# Altium footprint library Pulse transformer.PcbLib: 1 footprints
Each footprint in its own frame and in the unit in brackets; x right, y up, seen from the top. Pads: shape width x height; smd on the part's side, far side on the other; paste and mask are expansions set on the pad; w line width, h text height; cw(c..) or ccw(c..) is an arc to the next point about the centre after c.
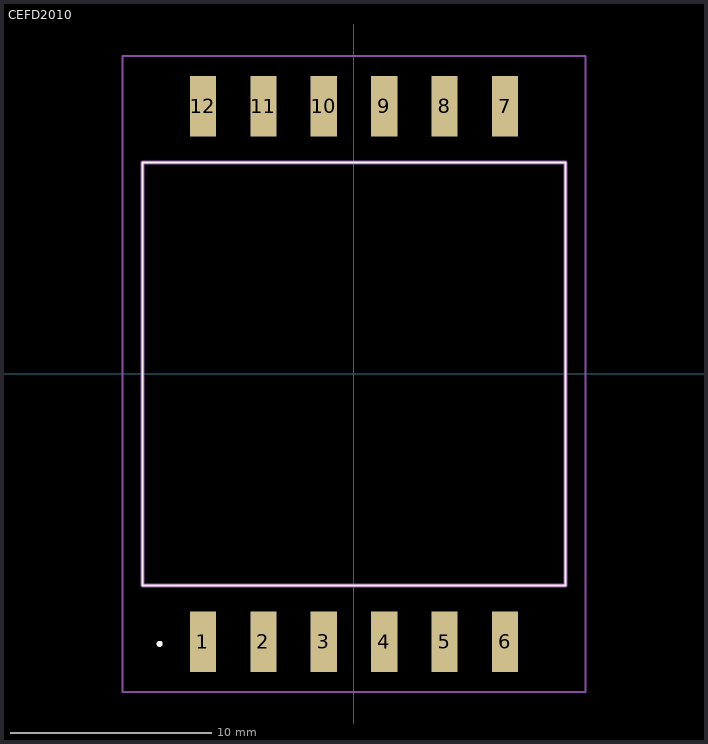
[diagram p0: the footprint, top view; thin cyan lines are the x and y axes]

## CEFD2010 [mm]
pads (12):
  rect 1.3x3 smd: 1(-7.5,-13.3) 2(-4.5,-13.3) 3(-1.5,-13.3) 4(1.5,-13.3) 5(4.5,-13.3) 6(7.5,-13.3) 7(7.5,13.3) 8(4.5,13.3) 9(1.5,13.3) 10(-1.5,13.3) 11(-4.5,13.3) 12(-7.5,13.3)
Top Overlay:
  lines w0.1: -10.5,-10.5 -10.5,10.5 10.5,10.5 10.5,-10.5 -10.5,-10.5
  lines w0.2: -9.7,-13.4 ccw(c-9.65,-13.4) -9.6,-13.4 ; -9.7,-13.4 cw(c-9.65,-13.4) -9.6,-13.4 ; -9.7,-13.4 ccw(c-9.65,-13.4) -9.6,-13.4
Mechanical 15:
  lines w0.2: -10.5,-10.5 -10.5,10.5 10.5,10.5 10.5,-10.5 -10.5,-10.5
Mechanical 20:
  lines w0.1: -11.5,-15.8 -11.5,15.8 11.5,15.8 11.5,-15.8 -11.5,-15.8